# Altium footprint library Transformers.PcbLib: 1 footprints
Each footprint in its own frame and in the unit in brackets; x right, y up, seen from the top. Pads: shape width x height; smd on the part's side, far side on the other; paste and mask are expansions set on the pad; w line width, h text height; cw(c..) or ccw(c..) is an arc to the next point about the centre after c.
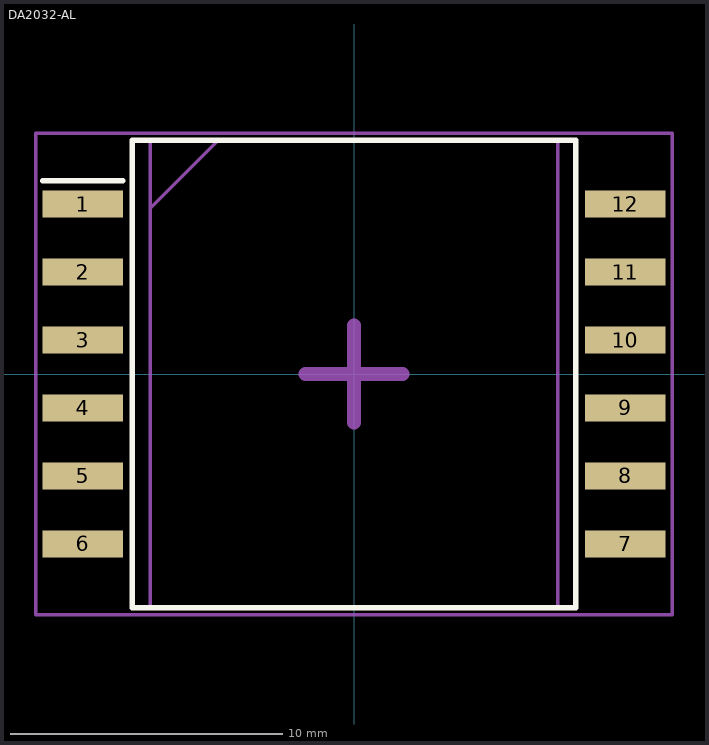
[diagram p0: the footprint, top view; thin cyan lines are the x and y axes]

## DA2032-AL [mm]
pads (12):
  rect 2.95x1 smd: 1(-9.975,6.25) 2(-9.975,3.75) 3(-9.975,1.25) 4(-9.975,-1.25) 5(-9.975,-3.75) 6(-9.975,-6.25) 7(9.975,-6.25) 8(9.975,-3.75) 9(9.975,-1.25) 10(9.975,1.25) 11(9.975,3.75) 12(9.975,6.25)
Top Overlay:
  lines w0.2: -11.45,7.1 -8.5,7.1 ; -8.15,-8.6 8.15,-8.6 8.15,8.6 -8.15,8.6 -8.15,-8.6
Top Component Center:
  lines w0.508: -1.778,0 0,0 ; 0,-1.778 0,0 ; 0,1.778 0,0 ; 1.778,0 0,0
Top Component Outline:
  lines w0.127: -7.49,6.1 -4.99,8.6 ; -7.49,-8.6 -7.49,8.6 7.49,8.6 7.49,-8.6 -7.49,-8.6
Top Courtyard:
  lines w0.127: -11.7,-8.85 -11.7,8.85 11.7,8.85 11.7,-8.85 -11.7,-8.85
3D body "DA2032-AL.STEP": height 8.64, standoff -0.3, extent -11,-8.6 11,8.6